# Altium footprint library BGA25C40P232X242X56-25L.PcbLib: 1 footprints
Each footprint in its own frame and in the unit in brackets; x right, y up, seen from the top. Pads: shape width x height; smd on the part's side, far side on the other; paste and mask are expansions set on the pad; w line width, h text height; cw(c..) or ccw(c..) is an arc to the next point about the centre after c.
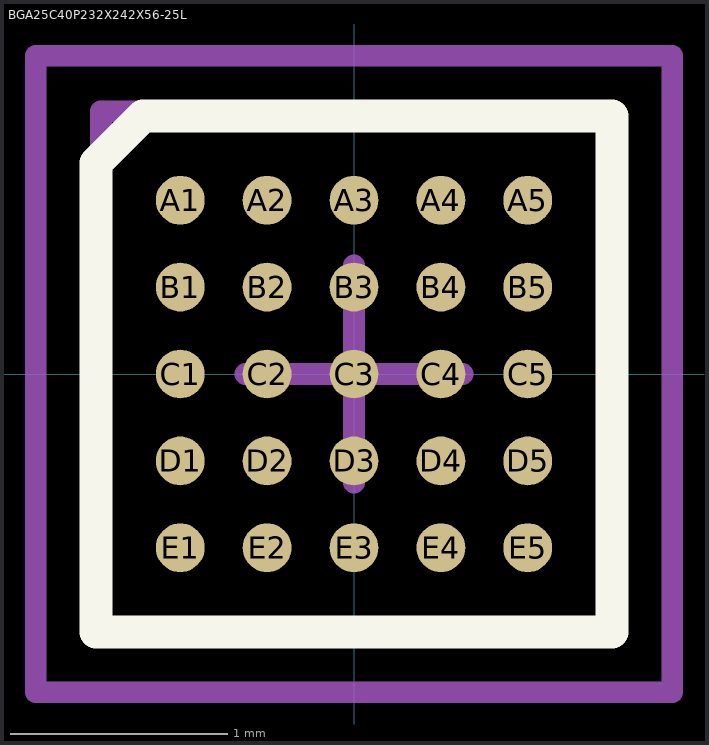
[diagram p0: the footprint, top view; thin cyan lines are the x and y axes]

## BGA25C40P232X242X56-25L [mm] "BGA, 25-Leads, Body 2.32x2.42mmx0.56mm, Pitch 0.40mm"
height 0.56
pads (25):
  round 0.225 smd: A1(-0.8,0.8) A2(-0.4,0.8) A3(0,0.8) A4(0.4,0.8) A5(0.8,0.8) B1(-0.8,0.4) B2(-0.4,0.4) B3(0,0.4) B4(0.4,0.4) B5(0.8,0.4) C1(-0.8,0) C2(-0.4,0) C3(0,0) C4(0.4,0) C5(0.8,0) D1(-0.8,-0.4) D2(-0.4,-0.4) D3(0,-0.4) D4(0.4,-0.4) D5(0.8,-0.4) E1(-0.8,-0.8) E2(-0.4,-0.8) E3(0,-0.8) E4(0.4,-0.8) E5(0.8,-0.8)
Top Overlay:
  lines w0.152: -1.188,-1.188 -1.188,0.971 -0.971,1.188 1.188,1.188 1.188,-1.188 -1.188,-1.188
Mechanical 13:
  lines w0.1: -1.165,-1.21 1.165,-1.21 1.165,1.21 -1.165,1.21 -1.165,-1.21
Mechanical 15:
  lines w0.1: -0.5,0 0.5,0 ; 0,-0.5 0,0.5 ; -1.465,-1.465 1.465,-1.465 1.465,1.465 -1.465,1.465 -1.465,-1.465
3D body "BGA25C40P5X5_232X242X56.step": height 0.56, standoff 0, extent -1.165,-1.21 1.165,1.21